# Altium schematic symbol library Inductor Iron.Schlib: 1 symbol
Pins are listed as number, name and electrical type; pins without a type are passive.

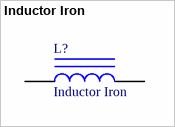
[diagram p0: symbol Inductor Iron]

## Inductor Iron
designator L?
Magnetic-Core Inductor
pins: 1, 2